# Altium schematic symbol library PMIC.SchLib: 10 symbols
Pins are listed as number, name and electrical type; pins without a type are passive.

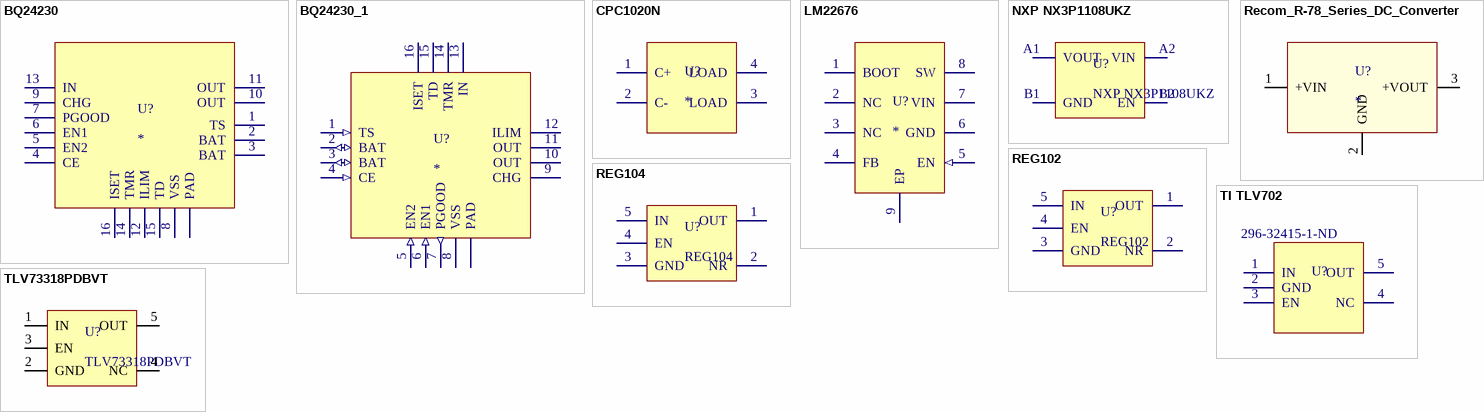
[diagram p0: symbols BQ24230 to TLV73318PDBVT]

## BQ24230
designator U?
Manufacturer: Texas Instruments; Manufacturer Part Number: BQ24230RGTR; Battery Chemistry: Lithium-Ion; Number of Cells: 1; Current - Charging: Constant - Programmable; Programmable Features: Timer; Fault Protection: Over Temperature, Over Voltage, Reverse Current, Short Circuit; Charge Current - Max: 500mA; Battery Pack Voltage: 4.2V; Voltage - Supply (Max): 6.4V; Interface: USB; Supplier 1: Digi-Key; Supplier Part Number 1: 296-23937-1-ND; RoHS: RoHS Compliant; Category: Integrated Circuits (ICs); Stock: 9565; Pricing: 1=3.87, 10=3.471, 100=2.7841, 500=2.28828, 1000=1.58908 (CAD); Packaging: Cut Tape (CT); Part Status: Active; Operating Temperature: -40°C ~ 125°C (TJ); Package / Case: 16-VFQFN Exposed Pad; Supplier Device Package: 16-QFN (3x3); ComponentLink1URL: http://www.ti.com/lit/ds/symlink/bq24230.pdf; ComponentLink1Description: http://www.ti.com/lit/ds/symlink/bq24230.pdf
footprint QFN16 50P300X300X100_HS-17N (QFN, 16-Leads, Body 3.00x3.00mm, Pitch 0.50mm, Thermal Pad 1.66x1.66mm, IPC Medium Density)
pins: 1 TS, 2 BAT, 3 BAT, 4 CE, 5 EN2, 6 EN1, 7 PGOOD, 8 VSS (power), 9 CHG (power), 10 OUT (power), 11 OUT (power), 12 ILIM (power), 13 IN (power), 14 TMR (power), 15 TD (power), 16 ISET (power), PAD (power)

## BQ24230_1
designator U?
Manufacturer: Texas Instruments; Manufacturer Part Number: BQ24230RGTR; Battery Chemistry: Lithium-Ion; Number of Cells: 1; Current - Charging: Constant - Programmable; Programmable Features: Timer; Fault Protection: Over Temperature, Over Voltage, Reverse Current, Short Circuit; Charge Current - Max: 500mA; Battery Pack Voltage: 4.2V; Voltage - Supply (Max): 6.4V; Interface: USB; Supplier 1: Digi-Key; Supplier Part Number 1: 296-23937-1-ND; RoHS: RoHS Compliant; Category: Integrated Circuits (ICs); Stock: 9565; Pricing: 1=3.87, 10=3.471, 100=2.7841, 500=2.28828, 1000=1.58908 (CAD); Packaging: Cut Tape (CT); Part Status: Active; Operating Temperature: -40°C ~ 125°C (TJ); Package / Case: 16-VFQFN Exposed Pad; Supplier Device Package: 16-QFN (3x3); ComponentLink1URL: http://www.ti.com/lit/ds/symlink/bq24230.pdf; ComponentLink1Description: http://www.ti.com/lit/ds/symlink/bq24230.pdf
footprint QFN16 50P300X300X100_HS-17N (QFN, 16-Leads, Body 3.00x3.00mm, Pitch 0.50mm, Thermal Pad 1.66x1.66mm, IPC Medium Density)
pins: 1 TS (in), 2 BAT (io), 3 BAT (io), 4 CE (in), 5 EN2 (in), 6 EN1 (in), 7 PGOOD (out), 8 VSS (power), 9 CHG (power), 10 OUT (power), 11 OUT (power), 12 ILIM (power), 13 IN (power), 14 TMR (power), 15 TD (power), 16 ISET (power), PAD (power)

## CPC1020N
designator U?
Small Solid State Relay; Manufacturer: IXYS; Manufacturer Part Number: CPC1020NTR; Load Voltage Rating: 30 VDC; Load Current Rating: 1.2 A; Contact Form: SPST (1 Form A); Output Type: MOSFET; Brand: IXYS Integrated Circuits; Input to Output Isolation Method: Optocoupler; Supplier 1: Digi-Key; Stock 1: 28319; Pricing 1: 1=3.36, 10=3.003, 25=2.7028, 100=2.4625, 250=2.2222, 500=1.994, 1000=1.6817 (USD); Product Category: Solid State Relays - PCB Mount; RoHS: True; Package / Case: SOP-4; Mounting Style: SMD/SMT; Height: 2.184 mm; Length: 4.089 mm; Packaging: Reel; Product: Telecommunication Relays; Series: CPC1020; Factory Pack Quantity: 2000; Termination Style: Gull Wing Lead; Tradename: Clare; Type: Miniature; Width: 3.8 mm; ComponentLink1URL: https://datasheet.ciiva.com/24075/cpc1020n-24075015.pdf; ComponentLink1Description: https://datasheet.ciiva.com/24075/cpc1020n-24075015.pdf; ComponentLink2URL: https://datasheet.ciiva.com/6569/cpc1020n-6569740.pdf; ComponentLink2Description: https://datasheet.ciiva.com/6569/cpc1020n-6569740.pdf; ComponentLink3URL: https://datasheet.ciiva.com/6569/cpc1020n-6569742.pdf; ComponentLink3Description: https://datasheet.ciiva.com/6569/cpc1020n-6569742.pdf; ComponentLink4URL: https://datasheet.ciiva.com/6569/cpc1020n-6569743.pdf; ComponentLink4Description: https://datasheet.ciiva.com/6569/cpc1020n-6569743.pdf; Supplier Part Number 1: CLA318CT-ND
footprint CPC1020N
pins: 1 C+ (power), 2 C-, 3 LOAD, 4 LOAD (power)

## LM22676
designator U?
Supplier 1: Digi-Key; Supplier Part Number 1: LM22676MRE-5.0/NOPBCT-ND
footprint 8-SOIC PowerPad
pins: 1 BOOT (power), 2 NC, 3 NC, 4 FB (power), 5 EN (in), 6 GND (power), 7 VIN (power), 8 SW (power), 9 EP (power)

## NXP NX3P1108UKZ
designator U?
High Side Load Switch 1.5A; Manufacturer: NXP Semiconductors; Number of Outputs: 1 Output; On Resistance - Max: 140 mOhms; On Time - Max: 220 us; Operating Supply Voltage: 3.3 V; Maximum Power Dissipation: 300 mW; Off Time - Max: 25 us; Supplier 1: Digi-Key; Manufacturer Part Number: NX3P1108UKZ; Stock 1: 6726; Pricing 1: 1=0.51, 10=0.416, 100=0.2831, 500=0.2124, 1000=0.1593 (USD); Product Category: Power Switch ICs - Power Distribution; RoHS: Details; Supply Current - Max: 1.5 A; Maximum Operating Temperature: + 85 C; Mounting Style: SMD/SMT; Package / Case: WLCSP-4; Brand: NXP Semiconductors; Minimum Operating Temperature: - 40 C; Packaging: Reel; Factory Pack Quantity: 4000; Switch Current - Max: 1.5 A; ComponentLink1URL: http://www.mouser.com/ds/2/302/NX3P1108-1127598.pdf?src-supplier=Mouser; ComponentLink1Description: http://www.mouser.com/ds/2/302/NX3P1108-1127598.pdf?src-supplier=Mouser; Supplier Part Number 1: 568-10218-1-ND
footprint WLCSP4 (4 Pin BGA 0.5mm)
pins: A1 VOUT, A2 VIN, B1 GND (power), B2 EN

## Recom_R-78_Series_DC_Converter
designator U?
footprint 3Pin DC Converter
pins: 1 +VIN (power), 2 GND (power), 3 +VOUT (power)

## REG102
designator U?
250mA 5V LDO; Supplier 1: Arrow; Supplier 2: Digi-Key; Supplier Part Number 1: REG102NA-5/250; Supplier Part Number 2: REG102NA-5CT-ND
pins: 1 OUT (power), 2 NR, 3 GND (power), 4 EN, 5 IN (power)

## REG104
designator U?
1A 3.3V LDO; Supplier 1: Digi-Key; Supplier Part Number 1: 296-50384-1-ND
footprint TO228P970-3N (REG104FA-3.3KTTT)
pins: 1 OUT (power), 2 NR, 3 GND (power), 4 EN, 5 IN (power)

## TI TLV702
designator U?  Supplier Part Number 1: 296-32415-1-ND  (hidden comment: *)
LDO Regulator; Manufacturer: Texas Instruments; Manufacturer Part Number: TLV70233DBVR; Dropout Voltage (Max): 375 mV; Input Voltage MAX: 5.5 V; Load Regulation: 1 mV; Input Voltage MIN: 2 V; Output Current: 300 mA; Number of Outputs: 1; Output Type: Fixed; Maximum Power Dissipation: 500 mW; Output Voltage: 3 V; PSRR / Ripple Rejection (Typ): 68 dB; Voltage Regulation Accuracy: 2 %; Supplier 1: Digi-Key; Stock 1: 39828; Pricing 1: 1=0.51, 10=0.44, 100=0.3288, 500=0.2583, 1000=0.1996 (USD); Factory Pack Quantity: 3000; Line Regulation: 1 mV; Maximum Operating Temperature: + 125 C; Mounting Style: SMD/SMT; Minimum Operating Temperature: - 40 C; Product Category: Low Dropout Regulators - LDO; RoHS: Details; Package / Case: SOT-23-5; Packaging: Reel; ComponentLink1URL: http://www.farnell.com/datasheets/1882072.pdf?src-supplier=Element14; ComponentLink1Description: http://www.farnell.com/datasheets/1882072.pdf?src-supplier=Element14; ComponentLink2URL: http://www.ti.com/lit/ds/symlink/tlv702.pdf?src-supplier=Digi-Key; ComponentLink2Description: http://www.ti.com/lit/ds/symlink/tlv702.pdf?src-supplier=Digi-Key
footprint SOT-23 5 Pin
pins: 1 IN (power), 2 GND, 3 EN, 4 NC, 5 OUT (power)

## TLV73318PDBVT
designator U?
1.8V 300mA LDO; Supplier 1: Digi-Key; Supplier Part Number 1: 296-38490-1-ND
footprint SOT-23 5 Pin
pins: 1 IN, 2 GND (power), 3 EN, 4 NC, 5 OUT